# Altium footprint library Relays.PcbLib: 1 footprints
Each footprint in its own frame and in the unit in brackets; x right, y up, seen from the top. Pads: shape width x height; smd on the part's side, far side on the other; paste and mask are expansions set on the pad; w line width, h text height; cw(c..) or ccw(c..) is an arc to the next point about the centre after c.
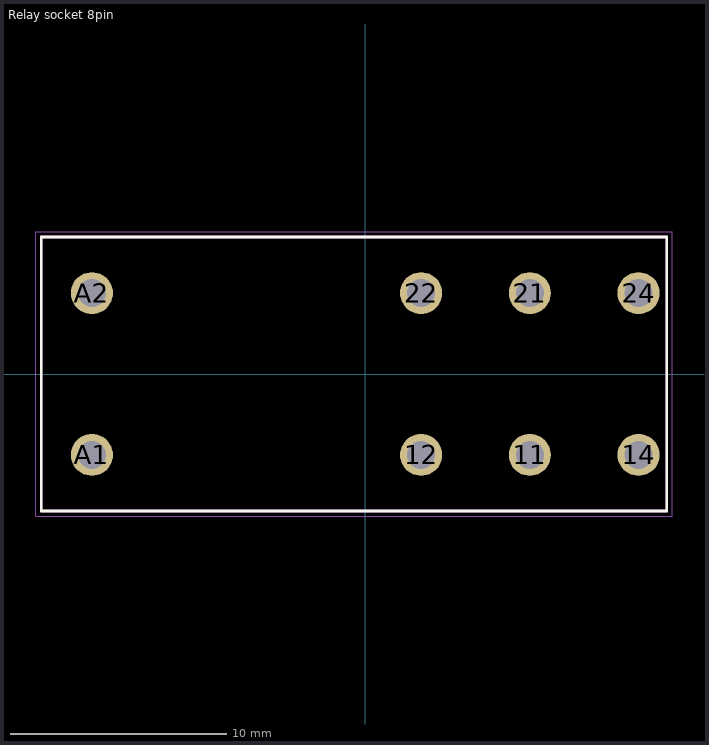
[diagram p0: the footprint, top view; thin cyan lines are the x and y axes]

## Relay socket 8pin [mm]
pads (8):
  round 1.95 hole 1.3: 11(7.63,-3.75) 12(2.59,-3.75) 14(12.67,-3.75) 21(7.63,3.75) 22(2.59,3.75) 24(12.67,3.75) A1(-12.67,-3.75) A2(-12.67,3.75)
Top Overlay:
  lines w0.127: -15.02,6.35 -15.02,-6.35 13.98,-6.35 13.98,6.35 -15.015,6.35
Mechanical 13:
  lines w0.127: -15.02,-6.35 13.98,-6.35 13.98,6.35 -15.02,6.35 -15.02,-6.35
Mechanical 15:
  lines w0.05: -15.27,-6.6 14.23,-6.6 14.23,6.6 -15.27,6.6 -15.27,-6.6
3D body "c-1860991-1-c-3d.stp": height 8.9, standoff -4.75, extent -15.475,-6.198 15.475,6.452